# Altium footprint library VSSOP-8_2x2.3_P0.5mm.PcbLib: 1 footprints
Each footprint in its own frame and in the unit in brackets; x right, y up, seen from the top. Pads: shape width x height; smd on the part's side, far side on the other; paste and mask are expansions set on the pad; w line width, h text height; cw(c..) or ccw(c..) is an arc to the next point about the centre after c.
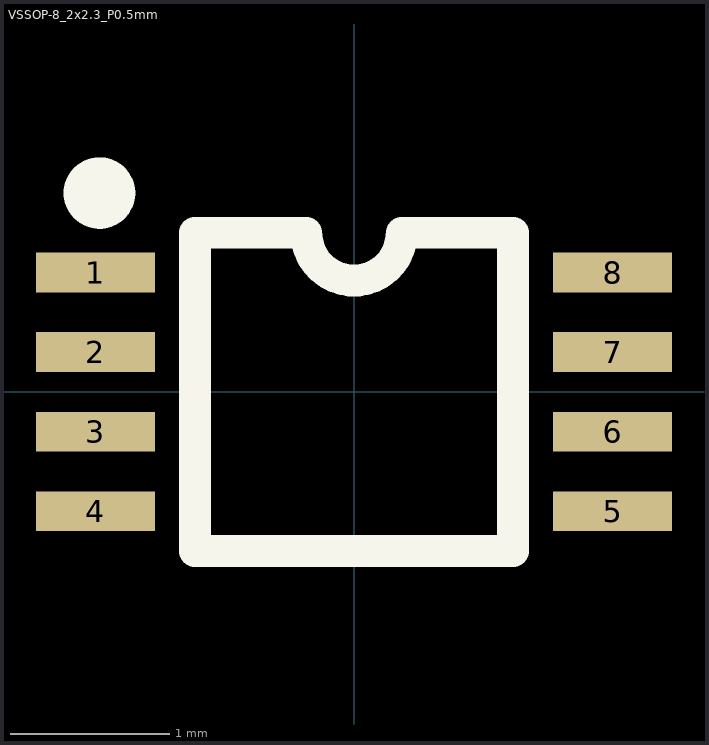
[diagram p0: the footprint, top view; thin cyan lines are the x and y axes]

## VSSOP-8_2x2.3_P0.5mm [mm]
pads (8):
  rect 0.75x0.25 smd paste-0.04 mask+0.05: 1(-1.625,0.75) 2(-1.625,0.25) 3(-1.625,-0.25) 4(-1.625,-0.75) 5(1.625,-0.75) 6(1.625,-0.25) 7(1.625,0.25) 8(1.625,0.75)
Top Overlay:
  circle w0.25: c-1.6,1.25 r0.1
  lines w0.2: -1,-1 1,-1 1,1 0.3,1 cw(c0,1) -0.3,1 -1,1 -1,-1
3D body "VSSOP-8_2x2.3_P0.5mm.step": height 0.9, standoff 0, extent -1.6,-1.05 1.6,1.05